# EAGLE library part 62004021821 (library Wuerth_Elektronik_eiCan_Pin_&_Socked_Headers_v1.3)
WR-PHD 2.00mm Dual Socket Header, 40 Pins
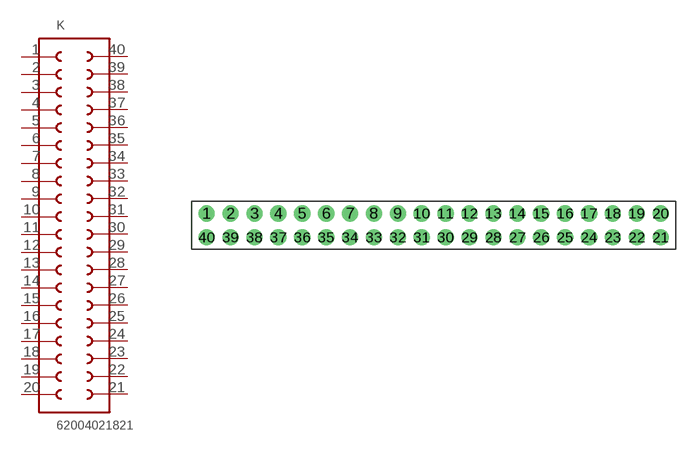
[diagram p301: symbol with the pads of 62004021821; footprint 62004021821]

Designator prefix K

## 62004021821  [62004021821]
1  1  pas
2  2  pas
3  3  pas
4  4  pas
5  5  pas
6  6  pas
7  7  pas
8  8  pas
9  9  pas
10  10  pas
11  11  pas
12  12  pas
13  13  pas
14  14  pas
15  15  pas
16  16  pas
17  17  pas
18  18  pas
19  19  pas
20  20  pas
21  21  pas
22  22  pas
23  23  pas
24  24  pas
25  25  pas
26  26  pas
27  27  pas
28  28  pas
29  29  pas
30  30  pas
31  31  pas
32  32  pas
33  33  pas
34  34  pas
35  35  pas
36  36  pas
37  37  pas
38  38  pas
39  39  pas
40  40  pas

## Footprint 62004021821 (pad centres in mm)
WR-PHD 2.00mm Dual Socket Header, 40 Pins
drill 0.85 round: 1 -19,1; 2 -17,1; 3 -15,1; 4 -13,1; 5 -11,1; 6 -9,1; 7 -7,1; 8 -5,1; 9 -3,1; 10 -1,1; 11 1,1; 12 3,1; 13 5,1; 14 7,1; 15 9,1; 16 11,1; 17 13,1; 18 15,1; 19 17,1; 20 19,1; 21 19,-1; 22 17,-1; 23 15,-1; 24 13,-1; 25 11,-1; 26 9,-1; 27 7,-1; 28 5,-1; 29 3,-1; 30 1,-1; 31 -1,-1; 32 -3,-1; 33 -5,-1; 34 -7,-1; 35 -9,-1; 36 -11,-1; 37 -13,-1; 38 -15,-1; 39 -17,-1; 40 -19,-1